# Altium footprint library CAP_0201.PcbLib: 1 footprints
Each footprint in its own frame and in the unit in brackets; x right, y up, seen from the top. Pads: shape width x height; smd on the part's side, far side on the other; paste and mask are expansions set on the pad; w line width, h text height; cw(c..) or ccw(c..) is an arc to the next point about the centre after c.
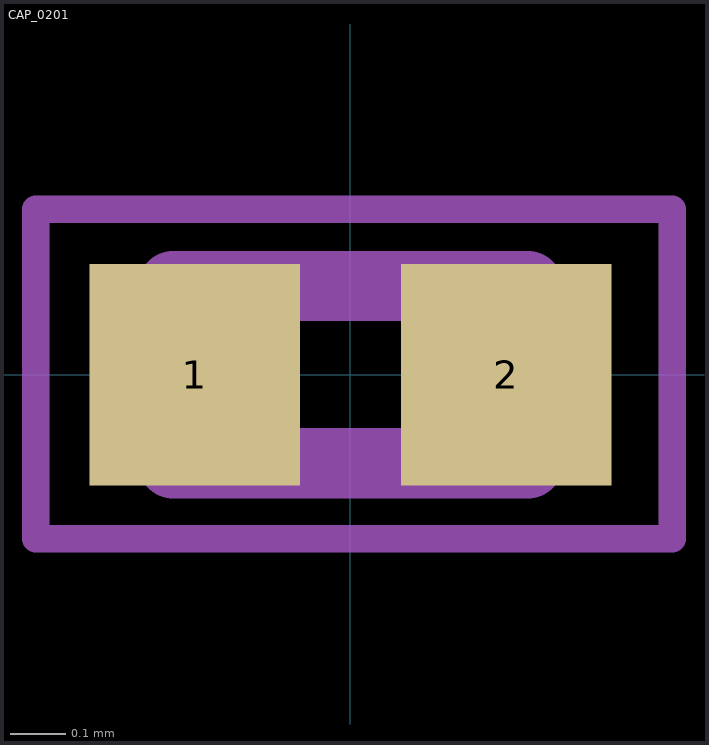
[diagram p0: the footprint, top view; thin cyan lines are the x and y axes]

## CAP_0201 [mm]
pads (2):
  rect 0.38x0.4 smd mask+0.05: 1(-0.281,0) 2(0.281,0)
Top 3D Body:
  lines w0.127: -0.32,-0.16 -0.32,0.16 0.32,0.16 0.32,-0.16 -0.32,-0.16
Top Courtyard:
  lines w0.05: -0.568,-0.296 -0.568,0.298 0.581,0.298 0.581,-0.296 -0.568,-0.296
3D body "CAPC0603X33N.step": height 0.33, standoff 0, extent -0.3,-0.15 0.3,0.15